# Altium footprint library e-Paper.PcbLib: 3 footprints
Each footprint in its own frame and in the unit in brackets; x right, y up, seen from the top. Pads: shape width x height; smd on the part's side, far side on the other; paste and mask are expansions set on the pad; w line width, h text height; cw(c..) or ccw(c..) is an arc to the next point about the centre after c.
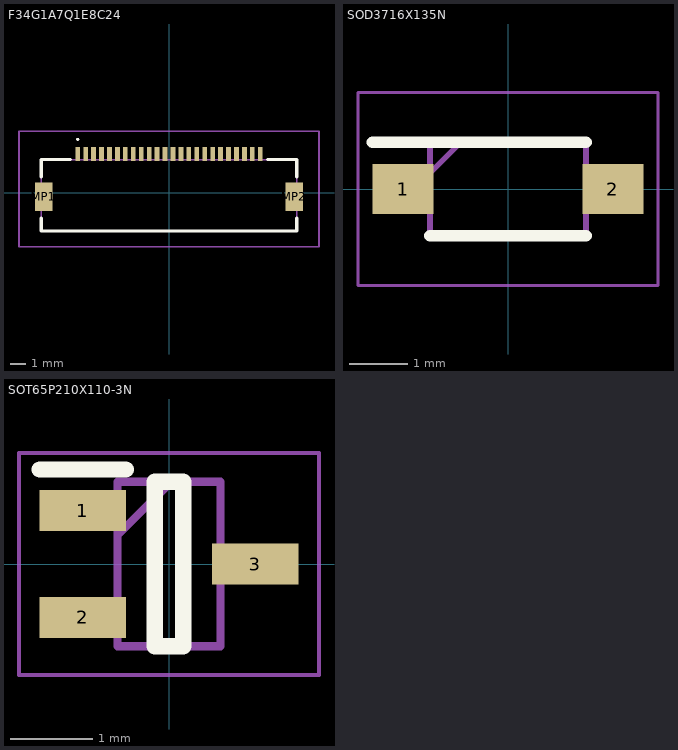
[diagram p0: the footprints below, top view; thin cyan lines are the x and y axes]

## F34G1A7Q1E8C24 [mm]
pads (26):
  rect 0.3x0.9 smd: 1(-5.75,2.425) 2(-5.25,2.425) 3(-4.75,2.425) 4(-4.25,2.425) 5(-3.75,2.425) 6(-3.25,2.425) 7(-2.75,2.425) 8(-2.25,2.425) 9(-1.75,2.425) 10(-1.25,2.425) 11(-0.75,2.425) 12(-0.25,2.425) 13(0.25,2.425) 14(0.75,2.425) 15(1.25,2.425) 16(1.75,2.425) 17(2.25,2.425) 18(2.75,2.425) 19(3.25,2.425) 20(3.75,2.425) 21(4.25,2.425) 22(4.75,2.425) 23(5.25,2.425) 24(5.75,2.425)
  rect 1.1x1.8 smd: MP1(-7.9,-0.275) MP2(7.9,-0.275)
Top Overlay:
  lines w0.1: -5.75,3.3 cw(c-5.75,3.35) -5.75,3.4 cw(c-5.75,3.35) -5.75,3.3
  lines w0.2: -8.05,-1.6 -8.05,-2.425 8.05,-2.425 8.05,-1.6 ; -8.05,1 -8.05,2.075 -6.2,2.075 ; 6.2,2.075 8.05,2.075 8.05,1
Top Component Outline:
  lines w0.1: -8.05,-2.425 -8.05,2.075 8.05,2.075 8.05,-2.425 -8.05,-2.425
Top Assembly:
  lines w0.1: -9.45,-3.425 -9.45,3.875 9.45,3.875 9.45,-3.425 -9.45,-3.425

## SOD3716X135N [mm]
pads (2):
  rect 1.05x0.85 smd: 1(-1.8,0) 2(1.8,0)
Top Overlay:
  lines w0.2: -2.325,0.8 1.34,0.8 ; -1.34,-0.8 1.34,-0.8
Top Component Outline:
  lines w0.1: -1.34,0.275 -0.815,0.8 ; -1.34,-0.8 -1.34,0.8 1.34,0.8 1.34,-0.8 -1.34,-0.8
Top Assembly:
  lines w0.05: -2.575,-1.655 -2.575,1.655 2.575,1.655 2.575,-1.655 -2.575,-1.655

## SOT65P210X110-3N [mm]
pads (3):
  rect 1.05x0.5 smd: 1(-1.05,0.65) 2(-1.05,-0.65) 3(1.05,0)
Top Overlay:
  lines w0.2: -1.575,1.15 -0.525,1.15 ; -0.175,-1 -0.175,1 0.175,1 0.175,-1 -0.175,-1
Top Component Outline:
  lines w0.1: -0.625,0.35 0.025,1 ; -0.625,-1 -0.625,1 0.625,1 0.625,-1 -0.625,-1
Top Assembly:
  lines w0.05: -1.825,-1.35 1.825,-1.35 1.825,1.35 -1.825,1.35 -1.825,-1.35